# Altium schematic symbol library KPH-1608SGC.SchLib: 1 symbol
Pins are listed as number, name and electrical type; pins without a type are passive.

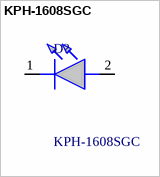
[diagram p0: symbol KPH-1608SGC]

## KPH-1608SGC
designator D?
Green Chip LED 1.6x0.8mm Kingbright KPH-1608SGC, 603 Series Green LED, 568 nm 1608 (0603), Rectangle Lens SMD package; Geometry.Height: 0.75mm; element14 Part Number: *; element14 Price/Stock: *; Manufacturer_Name: Kingbright; Manufacturer_Part_Number: KPH-1608SGC; Datasheet Link: https://kingbright-europe.de/_daten/2013-2015KBE-P005-023-SMD-LED.pdf
footprint LEDC1608X75N
pins: 1 K, 2 A